# Altium schematic symbol library SchLib.SchLib: 7 symbols
Pins are listed as number, name and electrical type; pins without a type are passive.

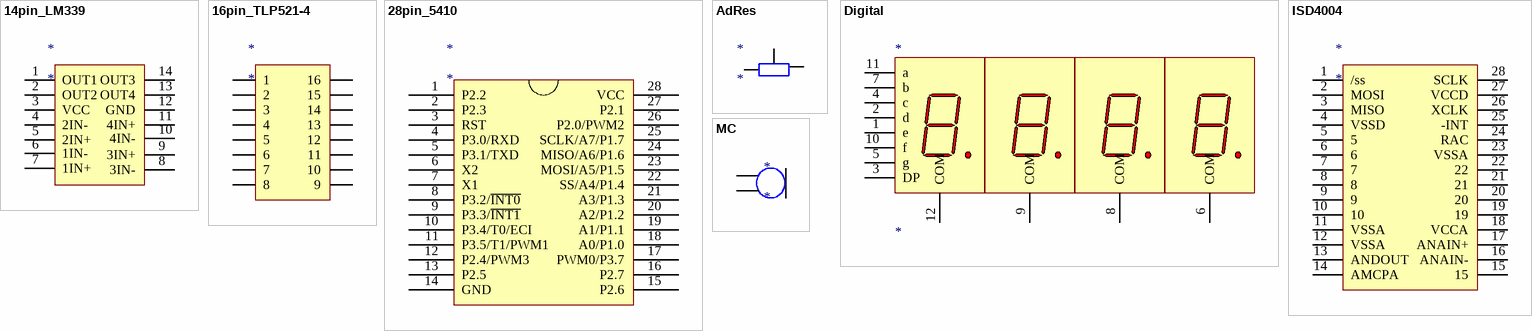
[diagram p0: symbols 14pin_LM339 to MC]

## 14pin_LM339
designator *
pins: 1 OUT1, 2 OUT2, 3 VCC, 4 2IN-, 5 2IN+, 6 1IN-, 7 1IN+, 8 3IN-, 9 3IN+, 10 4IN-, 11 4IN+, 12 GND, 13 OUT4, 14 OUT3

## 16pin_TLP521-4
designator *
pins: 1, 2, 3, 4, 5, 6, 7, 8, 9, 10, 11, 12, 13, 14, 15, 16

## 28pin_5410
designator *
pins: 1 P2.2, 2 P2.3, 3 RST, 4 P3.0/RXD, 5 P3.1/TXD, 6 X2, 7 X1, 8 P3.2/~{INT0}, 9 P3.3/~{INT1}, 10 P3.4/T0/ECI, 11 P3.5/T1/PWM1, 12 P2.4/PWM3, 13 P2.5, 14 GND, 15 P2.6, 16 P2.7, 17 PWM0/P3.7, 18 A0/P1.0, 19 A1/P1.1, 20 A2/P1.2, 21 A3/P1.3, 22 SS/A4/P1.4, 23 MOSI/A5/P1.5, 24 MISO/A6/P1.6, 25 SCLK/A7/P1.7, 26 P2.0/PWM2, 27 P2.1, 28 VCC

## AdRes
designator *
pins: 1, 2, 3

## Digital
designator *
pins: 1 e "Anode", 2 d "Anode", 3 DP "Anode", 4 c "Anode", 5 g "Anode", 6 COM "Cathode", 7 b "Anode", 8 COM "Cathode", 9 COM "Cathode", 10 f "Anode", 11 a "Anode", 12 COM "Cathode"

## ISD4004
designator *
pins: 1 /ss, 2 MOSI, 3 MISO, 4 VSSD, 5, 6, 7, 8, 9, 10, 11 VSSA, 12 VSSA, 13 ANDOUT, 14 AMCPA, 15, 16 ANAIN-, 17 ANAIN+, 18 VCCA, 19, 20, 21, 22, 23 VSSA, 24 RAC, 25 -INT, 26 XCLK, 27 VCCD, 28 SCLK

## MC
designator *
pins: 1, 2